# EAGLE library part 854-22-015-30-001101 (library KVB-connectors)
15 Position Spring Piston Connector Surface Mount
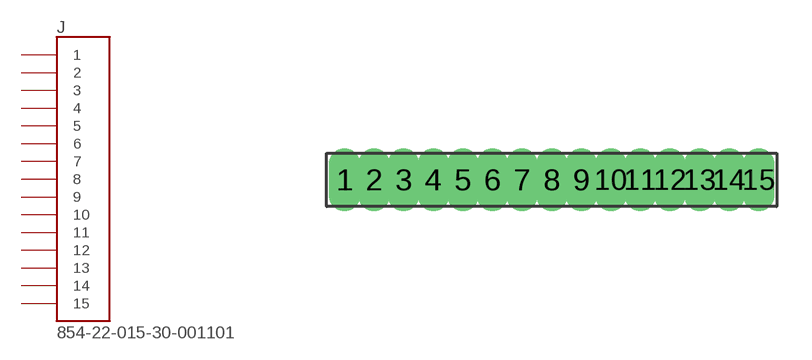
[diagram p30: symbol with the pads of 854-22-015-30-001101; footprint 854-22-015-30-001101]

Designator prefix J

## 854-22-015-30-001101 (MAN-PART_NUM: 854-22-015-30-001101; MANUFACTURER: Mill-Max)  [854-22-015-30-001101]
1  1
2  2
3  3
4  4
5  5
6  6
7  7
8  8
9  9
10  10
11  11
12  12
13  13
14  14
15  15

## Footprint 854-22-015-30-001101 (pad centres in mm)
drill 0.838 pad 1.067 long: 1 -8.89,0; 2 -7.62,0; 3 -6.35,0; 4 -5.08,0; 5 -3.81,0; 6 -2.54,0; 7 -1.27,0; 8 0,0; 9 1.27,0; 10 2.54,0; 11 3.81,0; 12 5.08,0; 13 6.35,0; 14 7.62,0; 15 8.89,0